# EAGLE library part DS620U (library Temp_IC)
IC THERMOMETER/STAT DIG MSOP08
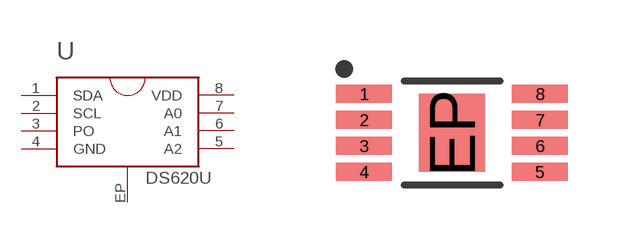
[diagram p0: symbol with the pads of MSOP08-EP; footprint MSOP08-EP]

Designator prefix U

## DS620U (PARTNO: 01-100410-00)  [MSOP08-EP]
1  SDA
2  SCL  in
3  PO  out
4  GND  pwr
5  A2  in
6  A1  in
7  A0  in
8  VDD  pwr
EP  EP  pwr

## Footprint MSOP08-EP (pad centres in mm)
uSOP08
smd 1.4 x 0.45: 1 -2.2,0.975; 2 -2.2,0.325; 3 -2.2,-0.325; 4 -2.2,-0.975; 5 2.2,-0.975; 6 2.2,-0.325; 7 2.2,0.325; 8 2.2,0.975
smd 1.65 x 1.95: EP 0,0